# EAGLE library part RELAY-DPDT (library Others)
Relay - DPDT Created by: Wai Weng
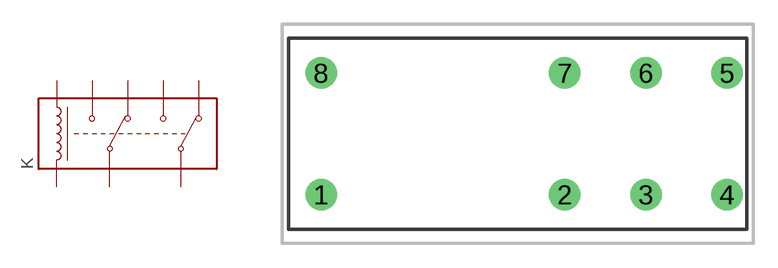
[diagram p7: symbol with the pads of RELAY-DPDT-29X13.5MM; footprint RELAY-DPDT-29X13.5MM]

Designator prefix K

## RELAY-DPDT_G2R-24-DC24_(29X13.5MM) (DESC: OMRON DPDT Relay G2R-24 DC24 24V 5A; MF: OMRON; MPN: G2R-24 DC24; VALUE: 24V 5A)  [RELAY-DPDT-29X13.5MM]
1  COIL1
2  NC1
3  COM1
4  NO1
5  NO2
6  COM2
7  NC2
8  COIL2

## Footprint RELAY-DPDT-29X13.5MM (pad centres in mm)
OMRON Relay - 8 Pins Size: 29mm x 13.5mm Created by: Wai Weng
drill 1.3: 1 -12.1,-3.75; 2 2.9,-3.75; 3 7.9,-3.75; 4 12.9,-3.75; 5 12.9,3.75; 6 7.9,3.75; 7 2.9,3.75; 8 -12.1,3.75